# Altium footprint library HAL and MotorBoard.PcbLib: 6 footprints
Each footprint in its own frame and in the unit in brackets; x right, y up, seen from the top. Pads: shape width x height; smd on the part's side, far side on the other; paste and mask are expansions set on the pad; w line width, h text height; cw(c..) or ccw(c..) is an arc to the next point about the centre after c.
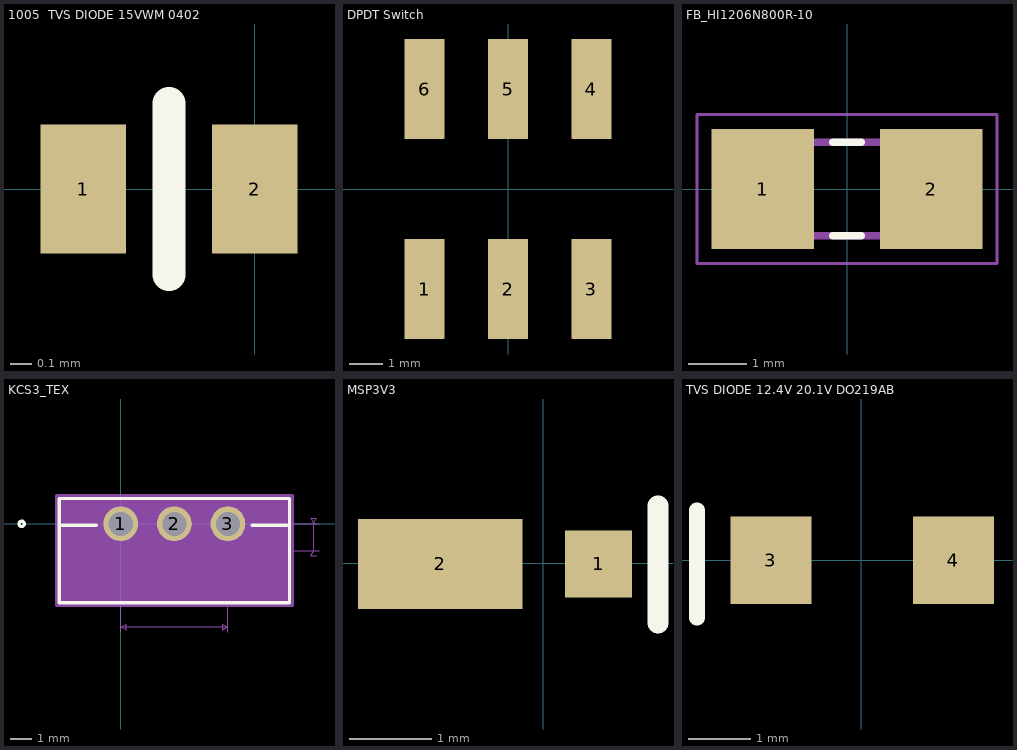
[diagram p0: the footprints below, top view; thin cyan lines are the x and y axes]

## 1005  TVS DIODE 15VWM 0402 [mm] "1005 TVS DIODE 15VWM 0402"
pads (2):
  rect 0.4x0.6 smd: 1(-0.8,0) 2(0,0)
Top Overlay:
  lines w0.152: -0.4,-0.4 -0.4,0.4
3D body: height 0.33, standoff 0, extent -0.9,-0.25 0.1,0.25

## DPDT Switch [mm]
height 5.5
pads (6):
  rect 1.2x3 smd: 1(-2.5,-3) 2(0,-3) 3(2.5,-3) 4(2.5,3) 5(0,3) 6(-2.5,3)
3D body "DPDT Switch.stp": height 5.5, standoff 0, extent -4.25,-2.5 4.25,2.5

## FB_HI1206N800R-10 [mm]
pads (2):
  rect 1.76x2.06 smd: 1(-1.445,0) 2(1.445,0)
Top Overlay:
  lines w0.127: -0.245,-0.8 0.245,-0.8 ; -0.245,0.8 0.245,0.8
Mechanical 13:
  lines w0.127: -1.6,-0.8 1.6,-0.8 1.6,0.8 -1.6,0.8 -1.6,-0.8
Mechanical 15:
  lines w0.05: -2.575,-1.28 2.575,-1.28 2.575,1.28 -2.575,1.28 -2.575,-1.28

## KCS3_TEX [mil]
pads (3):
  round 65 hole 45 mask+0: 1(0,0) 2(100,0) 3(200,0)
Top Overlay:
  circle w6: c-185,0 r5
  lines w6: -110,-2.5 -45.53,-2.5 ; 245.53,-2.5 310,-2.5 ; -115,-147.5 -115,47.5 315,47.5 315,-147.5 -115,-147.5
Mechanical 7:
  lines w1: 0,-202.5 0,-42.5 ; 110,-50 370,-50 ; 200,-202.5 200,-42.5 ; 242.5,0 370,0 ; 365,-60 355,-60 360,-50 360,0 ; 0,-192.5 10,-197.5 10,-187.5 0,-192.5 ; 0,-192.5 200,-192.5 ; 200,-192.5 190,-197.5 190,-187.5 200,-192.5 ; 360,0 355,10 365,10 360,0
Mechanical 13:
  circle w0: c-100,0 r5
  lines w1: -110,-7.5 310,-7.5 ; -110,-142.5 -110,42.5 310,42.5 310,-142.5 -110,-142.5
  text "TAB" at 81.25,5 h25
Mechanical 15:
  region: 320,52.5 -120,52.5 -120,-152.5 320,-152.5
  lines w6: -120,-152.5 320,-152.5 320,52.5 -120,52.5 -120,-152.5
3D body "KCS3_TEX.step": height 650, standoff -255, extent -110.94,-153.54 309.06,56.46

## MSP3V3 [mil]
pads (2):
  rect 32x32 smd: 1(26.55,-0.39)
  rect 79x43 smd: 2(-49.45,-0.39)
Top Overlay:
  lines w10: 55.12,-28.74 55.12,27.56

## TVS DIODE 12.4V 20.1V DO219AB [mil]
pads (2):
  rect 51x55 smd: 3(-57,0) 4(58,0)
Top Overlay:
  lines w10: -103.54,-36.22 -103.54,31.5